# Altium schematic symbol library Fuse.SchLib: 1 symbol
Pins are listed as number, name and electrical type; pins without a type are passive.

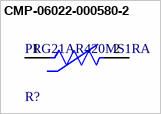
[diagram p0: symbol CMP-06022-000580-2]

## CMP-06022-000580-2
designator R?, comment PRG21AR420MS1RA
PTC Thermistor for Overcurrent Protection, Automotive, 0805, 42Ω, 20%, 20V; Resistance: 42R; Max Current Rating: 590mA; Hold Current: 54mA; Trip Current: 100mA; Termination: SMD/SMT; Series: POSISTOR®, PRG; Voltage: 20V; Number of Pins: 2; Packaging: Tape and Reel; Case/Package: 0805; Min Operating Temperature: -40°C; Radiation Hardening: No; Tolerance: 20%; Mount: Surface Mount; RoHS Compliant: Yes; Max Operating Temperature: 105°C; Depth: 1.25mm; Length: 2mm; Case Code (Imperial): 0805; Package Quantity: 4000
footprint FP-PRG21_RA-0_2-IPC_C
footprint FP-PRG21_RA-0_2-MFG
footprint FP-PRG21_RA-0_2-IPC_B
footprint FP-PRG21_RA-0_2-IPC_A
pins: 1, 2